# Altium schematic symbol library usmu.SchLib: 7 symbols
Pins are listed as number, name and electrical type; pins without a type are passive.

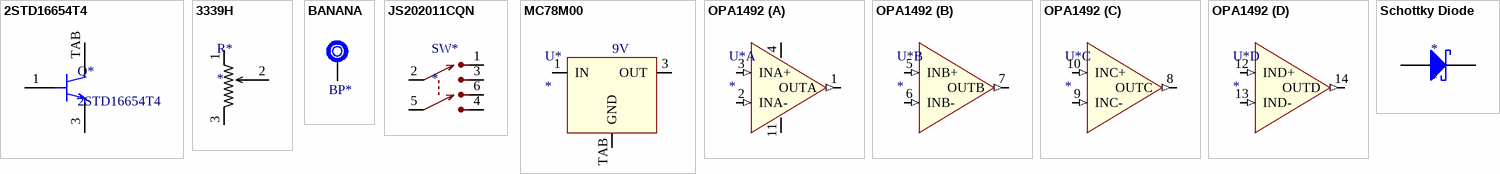
[diagram p0: symbols 2STD16654T4 to Schottky Diode]

## 2STD16654T4
designator Q*
STMicroelectronics NPN BJT High Power; Manufacturer Part Number: BF1101WR,115; Manufacturer: NXP Semiconductors; Digi-Key Part Number: 568-6140-1-ND; Rating: *; Value: *; Note: *
footprint TO-252
pins: 1 B, 3 E, TAB C

## 3339H
designator R*
Bourns 4-turn Trimpot
footprint 3339H (Bourns 4-turn Trimpot)
pins: 1 CW, 2 WIPER, 3 CCW

## BANANA
designator BP*  (value not drawn)
Banana plug; Manufacturer Part Number: Example: 5000, 5013; Manufacturer: Keystone Electronics; Digi-key: Example: 5000K-ND, 5012K-ND; Note: *; Rating: *; Value: *
footprint BANANA
pins: 0

## JS202011CQN
designator SW*
6-pin DPDT (tied) Slide Switch
footprint JS202011CQN (DPDT SWITCH)
pins: 1, 2, 3, 4, 5 0, 6

## MC78M00
designator U*  value 9V
500mA Positive Voltage Regulator
footprint TO-252
pins: 1 IN, 3 OUT, TAB GND

## OPA1492
designator U*
OPAx192 Op-Amp Texas Instruments
footprint 14-SOIC-TI
part A pins: 1 OUTA (out), 2 INA- (in), 3 INA+ (in), 4 V+ (power), 11 V- (power)
part B pins: 5 INB+ (in), 6 INB- (in), 7 OUTB (out)
part C pins: 8 OUTC (out), 9 INC- (in), 10 INC+ (in)
part D pins: 12 IND+ (in), 13 IND- (in), 14 OUTD (out)

## Schottky Diode
designator *
footprint MBRS360BT3G
pins: 1 A, 2 K